# EAGLE library part TPS63050RMW (library NM_Visual_Cortex_12-10-18)
Switching Voltage Regulators Tiny Single Inductor Buck Boost Converter
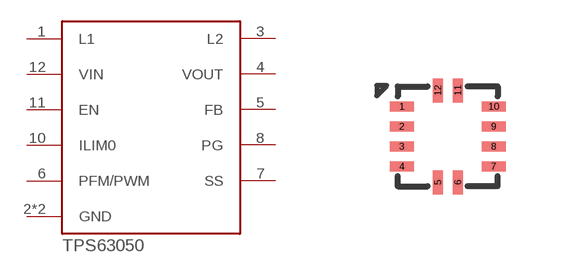
[diagram p11: symbol with the pads of 12QFN-HOTROD; footprint 12QFN-HOTROD]

Designator prefix -

## TPS63050RMW (DESCRIPTION: Switching Voltage Regulators Tiny Single Inductor Buck Boost Converter; MF: Texas Instruments; MP: TPS63050RMWR; PACKAGE: VQFN-12)  [12QFN-HOTROD]
1  L1
2  GND
3  L2
4  VOUT
5  FB
6  PFM/PWM
7  SS
8  PG
9  GND
10  ILIM0
11  EN
12  VIN

## Footprint 12QFN-HOTROD (pad centres in mm)
smd 0.6 x 0.25: 1 -1.15,0.75; 2 -1.15,0.25; 3 -1.15,-0.25; 4 -1.15,-0.75; 7 1.15,-0.75; 8 1.15,-0.25; 9 1.15,0.25; 10 1.15,0.75
smd 0.25 x 0.6: 5 -0.25,-1.15; 6 0.25,-1.15; 11 0.25,1.15; 12 -0.25,1.15